# EAGLE library part IV-11 (library mynixies)
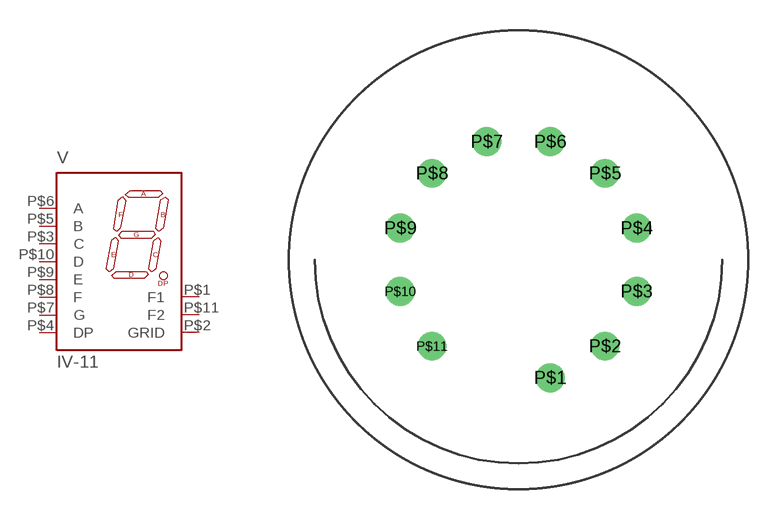
[diagram p31: symbol with the pads of IV-11; footprint IV-11]

Designator prefix V

## IV-11  [IV-11]
P$1  F1  pas
P$2  GRID  pas
P$3  C  pas
P$4  DP  pas
P$5  B  pas
P$6  A  pas
P$7  G  pas
P$8  F  pas
P$9  E  pas
P$10  D  pas
P$11  F2  pas

## Footprint IV-11 (pad centres in mm)
drill 0.9: P$1 1.553,-5.796; P$2 4.243,-4.243; P$3 5.796,-1.553; P$4 5.796,1.553; P$5 4.243,4.243; P$6 1.553,5.796; P$7 -1.553,5.796; P$8 -4.243,4.243; P$9 -5.796,1.553; P$10 -5.796,-1.553; P$11 -4.243,-4.243